# Altium footprint library PcbLib1.PcbLib: 12 footprints
Each footprint in its own frame and in the unit in brackets; x right, y up, seen from the top. Pads: shape width x height; smd on the part's side, far side on the other; paste and mask are expansions set on the pad; w line width, h text height; cw(c..) or ccw(c..) is an arc to the next point about the centre after c.
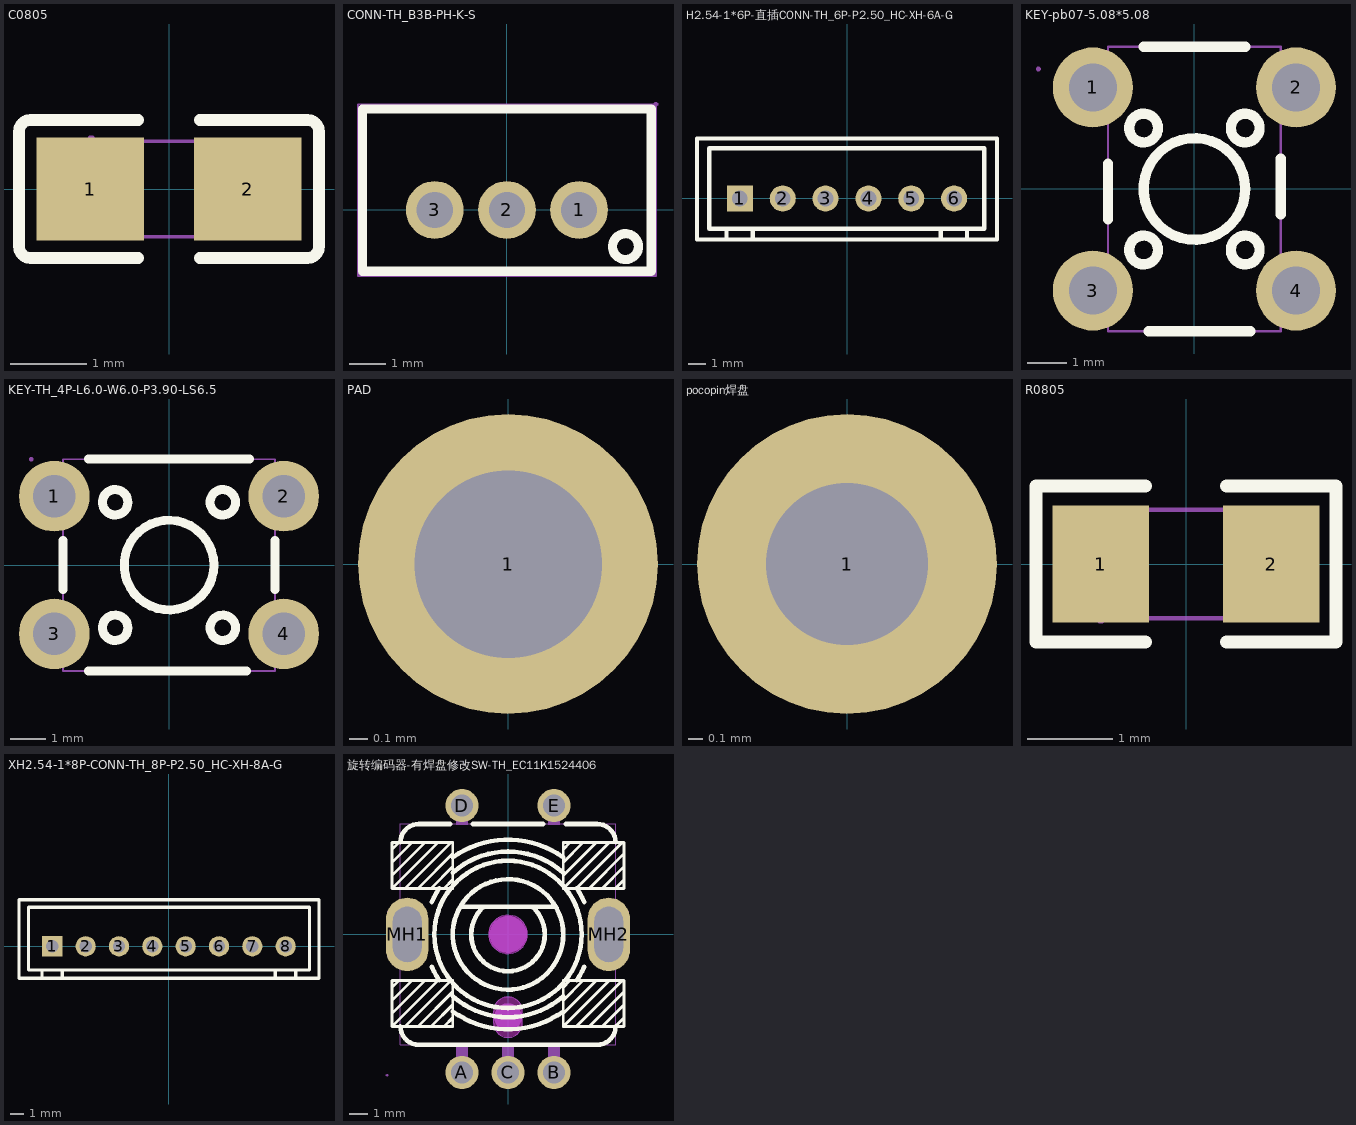
[diagram p0: the footprints below, top view; thin cyan lines are the x and y axes]

## C0805 [mm]
pads (2):
  rect 1.41x1.35 smd paste-100 mask+0.051: 1(-1.03,0) 2(1.03,0)
Top Overlay:
  lines w0.152: -0.401,-0.904 -1.811,-0.904 cw(c-1.811,-0.751) -1.964,-0.751 -1.964,0.751 cw(c-1.811,0.751) -1.811,0.904 -0.401,0.904 ; 0.401,-0.904 1.811,-0.904 ccw(c1.811,-0.751) 1.964,-0.751 1.964,0.751 ccw(c1.811,0.751) 1.811,0.904 0.401,0.904
Top Paste:
  region: -1.675,-0.62 -1.675,0.66 -1.625,0.71 -0.475,0.71 -0.425,0.66 -0.42,0.25 -0.87,0.25 -0.87,-0.2 -0.43,-0.2 -0.425,-0.62 -0.475,-0.67 -1.625,-0.67
  region: 0.475,-0.62 0.475,-0.2 0.92,-0.2 0.92,0.25 0.48,0.25 0.475,0.66 0.525,0.71 1.675,0.71 1.725,0.66 1.725,-0.62 1.675,-0.67 0.525,-0.67
Mechanical 15:
  region: -0.956,0.635 -0.956,0.66 -0.991,0.695 -1.041,0.695 -1.076,0.66 -1.076,0.635 -1.076,0.61 -1.041,0.575 -0.991,0.575 -0.956,0.61
  region: -1,-0.625 -1,0.625 -0.5,0.625 -0.5,-0.625
  region: 1,0.625 1,-0.625 0.5,-0.625 0.5,0.625
  lines w0.051: -1,-0.625 -1,0.625 1,0.625 1,-0.625 -1,-0.625

## CONN-TH_B3B-PH-K-S [mm]
pads (3):
  round 1.6 hole 1: 1(2,0) 2(0,0) 3(-2,0)
Top Overlay:
  circle w0.254: c3.286,-1.016 r0.359
  lines w0.254: -4,-1.7 -4,2.8 4,2.8 4,-1.7 -4,-1.7
Mechanical 15:
  region: -1.6,0 -1.6,0.08 -1.661,0.227 -1.773,0.339 -1.92,0.4 -2.08,0.4 -2.227,0.339 -2.339,0.227 -2.4,0.08 -2.4,0 -2.4,-0.08 -2.339,-0.227 -2.227,-0.339 -2.08,-0.4 -1.92,-0.4 -1.773,-0.339 -1.661,-0.227 -1.6,-0.08
  region: 2.4,0 2.4,0.08 2.339,0.227 2.227,0.339 2.08,0.4 1.92,0.4 1.773,0.339 1.661,0.227 1.6,0.08 1.6,0 1.6,-0.08 1.661,-0.227 1.773,-0.339 1.92,-0.4 2.08,-0.4 2.227,-0.339 2.339,-0.227 2.4,-0.08
  region: 0.4,0 0.4,0.08 0.339,0.227 0.227,0.339 0.08,0.4 -0.08,0.4 -0.227,0.339 -0.339,0.227 -0.4,0.08 -0.4,0 -0.4,-0.08 -0.339,-0.227 -0.227,-0.339 -0.08,-0.4 0.08,-0.4 0.227,-0.339 0.339,-0.227 0.4,-0.08
  region: 4.187,2.927 4.187,2.952 4.152,2.987 4.102,2.987 4.067,2.952 4.067,2.927 4.067,2.902 4.102,2.867 4.152,2.867 4.187,2.902
  lines w0.051: -4.127,-1.827 -4.127,2.927 4.127,2.927 4.127,-1.827 -4.127,-1.827

## H2.54-1*6P-直插CONN-TH_6P-P2.50_HC-XH-6A-G [mil]
pads (6):
  rect 60x60 hole 36 paste+0 mask+1.97: 1(-246.06,0)
  round 60 hole 36 paste+0 mask+1.97: 2(-147.63,0) 3(-49.22,0) 4(49.22,0) 5(147.63,0) 6(246.07,0)
Top Overlay:
  lines w10: -276.58,-94.49 -276.58,-70 ; -216.58,-94.49 -216.58,-70 ; 215.55,-94.49 215.55,-70 ; 275.55,-94.49 275.55,-70 ; -344.49,-94.49 344.49,-94.49 344.49,137.79 -344.49,137.79 -344.49,-94.49 ; -316.57,-70 -316.57,115 315,115 315,-70 -316.57,-70

## KEY-pb07-5.08*5.08 [mm]
pads (4):
  round 2 hole 1.2 paste+0 mask+0.051: 1(-2.54,2.54) 2(2.54,2.54) 3(-2.54,-2.54) 4(2.54,-2.54)
Top Overlay:
  circle w0.254: c1.27,-1.524 r0.359
  circle w0.254: c-1.27,-1.524 r0.359
  circle w0.254: c-1.27,1.524 r0.359
  circle w0.254: c1.27,1.524 r0.359
  circle w0.254: c0,0 r1.27
  lines w0.254: -2.159,-0.762 -2.159,0.638 ; -1.27,3.556 1.27,3.556 ; -1.143,-3.556 1.397,-3.556 ; 2.159,-0.635 2.159,0.765
Mechanical 15:
  region: 2.187,-2.221 3.147,-2.221 3.147,-2.921 2.187,-2.921
  region: 2.187,2.859 3.147,2.859 3.147,2.159 2.187,2.159
  region: -3.147,-2.221 -2.187,-2.221 -2.187,-2.921 -3.147,-2.921
  region: -3.147,2.859 -2.187,2.859 -2.187,2.159 -3.147,2.159
  region: -3.84,3 -3.84,3.025 -3.875,3.06 -3.925,3.06 -3.96,3.025 -3.96,3 -3.96,2.975 -3.925,2.94 -3.875,2.94 -3.84,2.975
  lines w0.051: -2.159,-3.556 2.159,-3.556 2.159,3.556 -2.159,3.556 -2.159,-3.556

## KEY-TH_4P-L6.0-W6.0-P3.90-LS6.5 [mm]
pads (4):
  round 2 hole 1.2 paste+0 mask+0.051: 1(-3.25,1.95) 2(3.25,1.95) 3(-3.25,-1.95) 4(3.25,-1.95)
Top Overlay:
  circle w0.254: c1.524,-1.778 r0.359
  circle w0.254: c-1.524,-1.778 r0.359
  circle w0.254: c-1.524,1.778 r0.359
  circle w0.254: c1.524,1.778 r0.359
  circle w0.254: c0,0 r1.27
  lines w0.254: -3,-0.7 -3,0.7 ; -2.274,-3 2.2,-3 ; -2.274,3 2.274,3 ; 3,-0.7 3,0.7
Mechanical 15:
  region: -2.94,-2.3 -3.9,-2.3 -3.9,-1.6 -2.94,-1.6
  region: -2.94,1.6 -3.9,1.6 -3.9,2.3 -2.94,2.3
  region: 2.94,2.3 3.9,2.3 3.9,1.6 2.94,1.6
  region: 2.94,-1.6 3.9,-1.6 3.9,-2.3 2.94,-2.3
  region: -3.05,-1.6 -3.05,-2.3 -3.45,-2.3 -3.45,-1.6
  region: -3.05,2.3 -3.05,1.6 -3.45,1.6 -3.45,2.3
  region: 3.45,2.3 3.45,1.6 3.05,1.6 3.05,2.3
  region: 3.45,-1.6 3.45,-2.3 3.05,-2.3 3.05,-1.6
  region: -3.84,3 -3.84,3.025 -3.875,3.06 -3.925,3.06 -3.96,3.025 -3.96,3 -3.96,2.975 -3.925,2.94 -3.875,2.94 -3.84,2.975
  lines w0.051: -3,-3 -3,3 3,3 3,-3 -3,-3

## PAD [mm]
pads (1):
  round 1.6 hole 1: 1(0,0)

## PCBComponent_1 [mm]

## pocopin [mm]

## pocopin焊盘 [mil]
pads (1):
  round 80 hole 43.31 mask+4: 1(0,0)

## R0805 [mm]
pads (2):
  rect 1.133x1.377 smd paste-100 mask+0.051: 1(-1,0) 2(1,0)
Top Overlay:
  lines w0.152: -0.476,-0.917 -1.761,-0.917 -1.761,0.917 -0.476,0.917 ; 0.476,-0.917 1.761,-0.917 1.761,0.917 0.476,0.917
Top Paste:
  region: -1.7,-0.64 -1.7,0.64 -1.65,0.69 -0.5,0.69 -0.45,0.64 -0.445,0.23 -0.895,0.23 -0.895,-0.22 -0.455,-0.22 -0.45,-0.64 -0.5,-0.69 -1.65,-0.69
  region: 0.45,-0.64 0.45,-0.22 0.895,-0.22 0.895,0.23 0.455,0.23 0.45,0.64 0.5,0.69 1.65,0.69 1.7,0.64 1.7,-0.64 1.65,-0.69 0.5,-0.69
Mechanical 15:
  region: -0.94,-0.638 -0.94,-0.613 -0.975,-0.578 -1.025,-0.578 -1.06,-0.613 -1.06,-0.638 -1.06,-0.662 -1.025,-0.698 -0.975,-0.698 -0.94,-0.662
  region: -1,-0.637 -1,0.637 -0.6,0.637 -0.6,-0.637
  region: 1,-0.637 1,0.637 0.6,0.637 0.6,-0.637
  lines w0.051: -1,-0.637 -1,0.637 1,0.637 1,-0.637 -1,-0.637

## XH2.54-1*8P-CONN-TH_8P-P2.50_HC-XH-8A-G [mil]
pads (8):
  rect 60x60 hole 36 paste+0 mask+1.97: 1(-344.49,0)
  round 60 hole 36 paste+0 mask+1.97: 2(-246.05,0) 3(-147.64,0) 4(-49.2,0) 5(49.21,0) 6(147.65,0) 7(246.06,0) 8(344.5,0)
Top Overlay:
  lines w10: -375,-94.49 -375,-70 ; -315,-94.49 -315,-70 ; 313.98,-94.49 313.98,-70 ; 373.98,-94.49 373.98,-70 ; -442.91,-94.49 442.91,-94.49 442.91,137.79 -442.91,137.79 -442.91,-94.49 ; -415,-70 -415,115 415,115 415,-70 -415,-70

## 旋转编码器-有焊盘修改SW-TH_EC11K1524406 [mm]
pads (7):
  round 1.8 hole 1.2 paste+0 mask+0.051: A(-2.5,-7.5) B(2.5,-7.5) C(0,-7.5) D(-2.5,7) E(2.5,7)
  oval 2.3x4 hole 1.55 slot 3 at 90 deg copper offset 0,0 paste+0 mask+0.051: MH1(-5.475,0)
  oval 2.3x4 hole 1.55 slot 3 at 90 deg paste+0 mask+0.051: MH2(5.475,0)
Top Overlay:
  circle w0.254: c0,0 r3
  lines w0.15: -6.3,-4.293 -4.507,-2.5 ; -6.3,-3.586 -5.214,-2.5 ; -6.3,-2.879 -5.921,-2.5 ; -6.3,3.207 -4.507,5 ; -6.3,3.914 -5.214,5 ; -6.3,4.621 -5.921,5 ; -5.593,-5 -3.093,-2.5 ; -5.593,2.5 -3.093,5 ; -4.886,-5 -3,-3.114 ; -4.886,2.5 -3,4.386 ; -4.179,-5 -3,-3.821 ; -4.179,2.5 -3,3.679 ; -3.8,-2.5 -6.3,-5 ; -3.8,5 -6.3,2.5 ; -3.472,-5 -3,-4.528 ; -3.472,2.5 -3,2.972 ; 3,-4.293 4.793,-2.5 ; 3,-3.586 4.086,-2.5 ; 3,-2.879 3.379,-2.5 ; 3,3.207 4.793,5 ; 3,3.914 4.086,5 ; 3,4.621 3.379,5 ; 3.707,-5 6.207,-2.5 ; 3.707,2.5 6.207,5 ; 4.414,-5 6.3,-3.114 ; 4.414,2.5 6.3,4.386 ; 5.121,-5 6.3,-3.821 ; 5.121,2.5 6.3,3.679 ; 5.5,-2.5 3,-5 ; 5.5,5 3,2.5 ; 5.828,-5 6.3,-4.528 ; 5.828,2.5 6.3,2.972 ; -6.3,-5 -3,-5 -3,-2.5 -6.3,-2.5 -6.3,-5 ; -6.3,2.5 -3,2.5 -3,5 -6.3,5 -6.3,2.5 ; 3,-5 6.3,-5 6.3,-2.5 3,-2.5 3,-5 ; 3,2.5 6.3,2.5 6.3,5 3,5 3,2.5
  lines w0.254: -5.849,-5 ccw(c-4.841,-4.99) -4.841,-5.998 4.842,-5.998 ccw(c4.842,-4.99) 5.851,-5 ; -5.849,5 cw(c-4.84,4.992) -4.841,6.001 -3.141,6.001 ; -4.143,-1.756 ccw(c0,0) -3.742,-2.5 ; -4.143,1.756 cw(c0,0) -3.742,2.5 ; -3.123,-2.5 cw(c0,0) -3.123,2.5 ; -3,-4.186 ccw(c0,0) 3,-4.186 ; -3,-3.354 ccw(c0,0) 3,-3.354 ; -3,-2.646 ccw(c0,0) 3,-2.646 ; -3,2.646 cw(c0,0) 3,2.646 ; -3,3.354 cw(c0,0) 3,3.354 ; -3,4.186 cw(c0,0) 3,4.186 ; -2.598,1.501 2.597,1.501 ; -1.9,6.001 1.9,6.001 ; -1.322,1.501 ccw(c0,0) 1.321,1.501 ; 3.122,-2.5 ccw(c0,0) 3.122,2.5 ; 3.142,6.001 4.842,6.001 cw(c4.842,4.992) 5.851,5 ; 3.742,-2.5 ccw(c0,0) 4.143,-1.756 ; 3.742,2.5 cw(c0,0) 4.143,1.756
Keep-Out Layer:
  board cut-out: 0.775,-4.825 0.775,-4.927 0.722,-5.124 0.62,-5.301 0.476,-5.445 0.299,-5.547 0.102,-5.6 -0.102,-5.6 -0.299,-5.547 -0.476,-5.445 -0.62,-5.301 -0.722,-5.124 -0.775,-4.927 -0.775,-4.825 -0.775,-4.175 -0.775,-4.073 -0.722,-3.876 -0.62,-3.699 -0.476,-3.555 -0.299,-3.453 -0.102,-3.4 0.102,-3.4 0.299,-3.453 0.476,-3.555 0.62,-3.699 0.722,-3.876 0.775,-4.073 0.775,-4.175
  board cut-out: 1.05,0 1.05,0.138 0.978,0.405 0.84,0.645 0.645,0.84 0.405,0.978 0.138,1.05 -0.138,1.05 -0.405,0.978 -0.645,0.84 -0.84,0.645 -0.978,0.405 -1.05,0.138 -1.05,0 -1.05,-0.138 -0.978,-0.405 -0.84,-0.645 -0.645,-0.84 -0.405,-0.978 -0.138,-1.05 0.138,-1.05 0.405,-0.978 0.645,-0.84 0.84,-0.645 0.978,-0.405 1.05,-0.138
Mechanical 1:
  circle w0.005: c0,0 r1.05
  lines w0.005: -0.775,-4.825 ccw(c0,-4.825) 0.775,-4.825 0.775,-4.175 ccw(c0,-4.175) -0.775,-4.175 -0.775,-4.825
Mechanical 6:
  circle w0.75: c0,-4.5 r0.375
  circle w1: c0,0 r0.5
Mechanical 15:
  region: -2.2,-7.65 -2.2,-5.96 -2.79,-5.96 -2.8,-5.96 -2.8,-7.65
  region: 0.3,-7.65 0.3,-5.96 -0.29,-5.96 -0.3,-5.96 -0.3,-7.65
  region: 2.8,-7.65 2.8,-5.96 2.21,-5.96 2.2,-5.96 2.2,-7.65
  region: -2.8,7.15 -2.2,7.15 -2.2,5.95 -2.8,5.95
  region: 2.2,7.15 2.8,7.15 2.8,5.95 2.2,5.95
  region: -5.325,-1.25 -6.57,-1.25 -6.57,1.25 -5.325,1.25
  region: 5.325,1.25 6.57,1.25 6.57,-1.25 5.325,-1.25
  region: -2.8,7.15 -2.2,7.15 -2.2,6.85 -2.8,6.85
  region: 2.2,7.15 2.8,7.15 2.8,6.85 2.2,6.85
  region: -5.325,1.25 -5.325,-1.25 -5.625,-1.25 -5.625,1.25
  region: 5.625,1.25 5.625,-1.25 5.325,-1.25 5.325,1.25
  region: 2.2,-7.35 2.8,-7.35 2.8,-7.65 2.2,-7.65
  region: -0.3,-7.35 0.3,-7.35 0.3,-7.65 -0.3,-7.65
  region: -2.8,-7.35 -2.2,-7.35 -2.2,-7.65 -2.8,-7.65
  region: -6.51,-7.65 -6.51,-7.625 -6.545,-7.59 -6.595,-7.59 -6.63,-7.625 -6.63,-7.65 -6.63,-7.675 -6.595,-7.71 -6.545,-7.71 -6.51,-7.675
  lines w0.051: -5.85,-6 -5.85,6 5.85,6 5.85,-6 -5.85,-6